# Altium footprint library myST.PcbLib: 1 footprints
Each footprint in its own frame and in the unit in brackets; x right, y up, seen from the top. Pads: shape width x height; smd on the part's side, far side on the other; paste and mask are expansions set on the pad; w line width, h text height; cw(c..) or ccw(c..) is an arc to the next point about the centre after c.
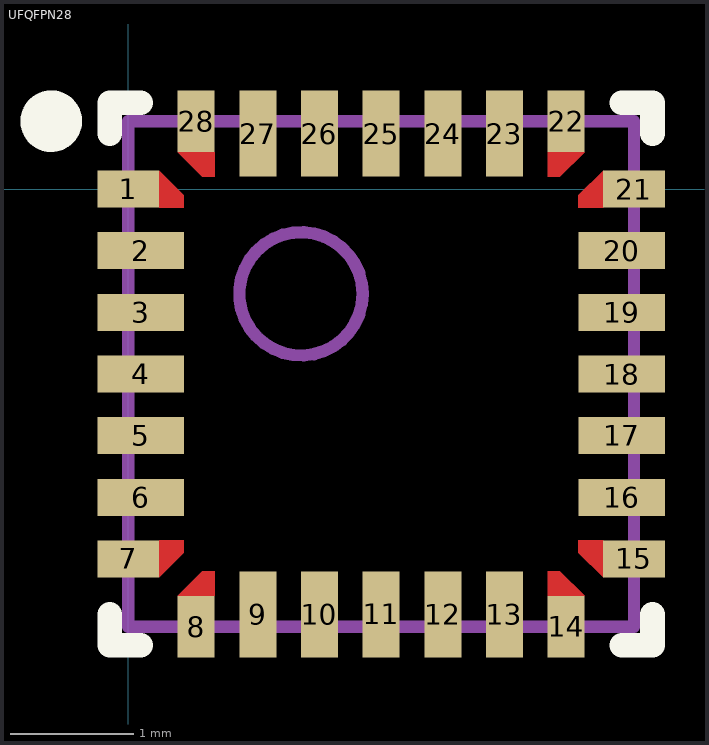
[diagram p0: the footprint, top view; thin cyan lines are the x and y axes]

## UFQFPN28 [mm] "STM32L031G6U6"
pads (28):
  rect 0.5x0.3 smd paste+0 mask-0.15: 1(0,0) 7(0,-3) 15(4.1,-3) 21(4.1,0)
  rect 0.7x0.3 smd paste+0 mask+0.051: 2(0.1,-0.5) 3(0.1,-1) 4(0.1,-1.5) 5(0.1,-2) 6(0.1,-2.5) 16(4,-2.5) 17(4,-2) 18(4,-1.5) 19(4,-1) 20(4,-0.5)
  rect 0.3x0.5 smd paste+0 mask-0.15: 8(0.55,-3.55) 14(3.55,-3.55) 22(3.55,0.55) 28(0.55,0.55)
  rect 0.3x0.7 smd paste+0 mask+0.051: 9(1.05,-3.45) 10(1.55,-3.45) 11(2.05,-3.45) 12(2.55,-3.45) 13(3.05,-3.45) 23(3.05,0.45) 24(2.55,0.45) 25(2.05,0.45) 26(1.55,0.45) 27(1.05,0.45)
Top Layer:
  region: 3.4,0.1 3.4,0.3 3.7,0.3 3.5,0.1
  region: 0.45,-0.15 0.25,-0.15 0.25,0.15 0.45,-0.05
  region: 0.7,-3.1 0.7,-3.3 0.4,-3.3 0.6,-3.1
  region: 3.65,-2.85 3.85,-2.85 3.85,-3.15 3.65,-2.95
  region: 0.45,-2.85 0.25,-2.85 0.25,-3.15 0.45,-2.95
  region: 3.4,-3.1 3.4,-3.3 3.7,-3.3 3.5,-3.1
  region: 3.65,-0.15 3.85,-0.15 3.85,0.15 3.65,-0.05
  region: 0.7,0.1 0.7,0.3 0.4,0.3 0.6,0.1
Top Overlay:
  circle w0.25: c-0.625,0.55 r0.125
  lines w0.2: -0.15,-3.45 -0.15,-3.7 0.1,-3.7 ; -0.15,0.45 -0.15,0.7 0.1,0.7 ; 4,-3.7 4.25,-3.7 4.25,-3.45 ; 4,0.7 4.25,0.7 4.25,0.45
Top Paste:
  region: 3.4,-3.1 3.4,-3.3 3.7,-3.3 3.5,-3.1
  region: 3.4,0.1 3.4,0.3 3.7,0.3 3.5,0.1
  region: 0.7,0.1 0.7,0.3 0.4,0.3 0.6,0.1
  region: 3.65,-0.15 3.85,-0.15 3.85,0.15 3.65,-0.05
  region: 0.45,-2.85 0.25,-2.85 0.25,-3.15 0.45,-2.95
  region: 3.65,-2.85 3.85,-2.85 3.85,-3.15 3.65,-2.95
  region: 0.7,-3.1 0.7,-3.3 0.4,-3.3 0.6,-3.1
  region: 0.45,-0.15 0.25,-0.15 0.25,0.15 0.45,-0.05
Top Solder:
  region: 0.25,0.21 -0.31,0.21 -0.31,-0.21 0.485,-0.21 0.485,-0.025
  region: 0.25,-3.21 -0.31,-3.21 -0.31,-2.79 0.485,-2.79 0.485,-2.975
  region: 3.85,0.21 4.41,0.21 4.41,-0.21 3.615,-0.21 3.615,-0.025
  region: 0.34,-3.3 0.34,-3.86 0.76,-3.86 0.76,-3.065 0.575,-3.065
  region: 3.85,-3.21 4.41,-3.21 4.41,-2.79 3.615,-2.79 3.615,-2.975
  region: 0.34,0.3 0.34,0.86 0.76,0.86 0.76,0.065 0.575,0.065
  region: 3.76,0.3 3.76,0.86 3.34,0.86 3.34,0.065 3.525,0.065
  region: 3.76,-3.3 3.76,-3.86 3.34,-3.86 3.34,-3.065 3.525,-3.065
Mechanical 13:
  circle w0.1: c1.4,-0.85 r0.5
  lines w0.1: 0,-3.55 4.1,-3.55 4.1,0.55 0,0.55 0,-3.55
3D body: height 0.6, standoff 0, extent 0.5,-3.05 3.6,0.05